# EAGLE library part USB-C2.0 (library Keys)
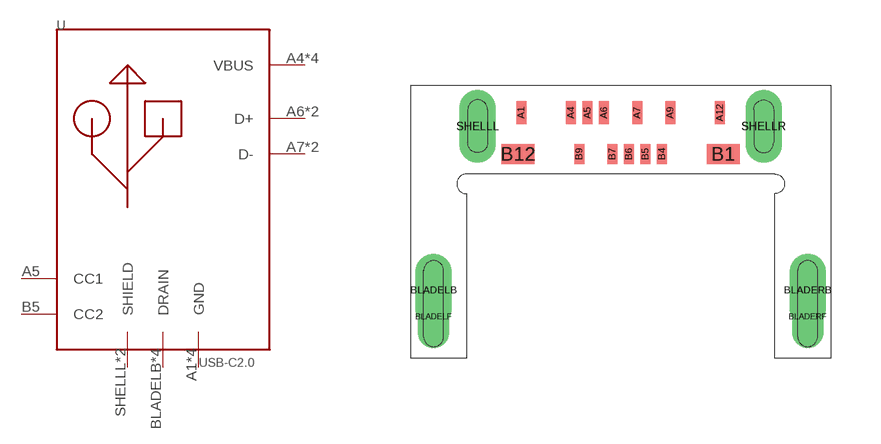
[diagram p3: symbol with the pads of WM17904_SIMP; footprint WM17904_SIMP]

Designator prefix -

## USB-C2.0WM2.0  [WM17904_SIMP]
A1  GND
A4  VBUS
A5  CC1
A6  D+
A7  D-
A9  VBUS
A12  GND
B1  GND
B4  VBUS
B5  CC2
B6  D+
B7  D-
B9  VBUS
B12  GND
BLADELB  DRAIN
BLADELF  DRAIN
BLADERB  DRAIN
BLADERF  DRAIN
SHELLL  SHIELD
SHELLR  SHIELD

## Footprint WM17904_SIMP (pad centres in mm)
smd 0.3 x 0.7: A1 -3,7.42; A4 -1.5,7.42; A5 -1,7.42; A6 -0.5,7.42; A7 0.5,7.42; A9 1.5,7.42; A12 3,7.42
smd 1 x 0.6: B1 3.1,6.17; B12 -3.1,6.17
smd 0.3 x 0.6: B4 1.25,6.17; B5 0.75,6.17; B6 0.25,6.17; B7 -0.25,6.17; B9 -1.25,6.17
drill 0.6 pad 1.05 long: BLADELB -5.65,2.05; BLADERB 5.65,2.05
drill 0.4 pad 0.95 long: BLADELF -5.65,1.25; BLADERF 5.65,1.25
drill 0.5 pad 1.1 long: SHELLL -4.32,7.01
drill 0.6 long: SHELLR 4.32,7.01